# Altium footprint library Seeed-OPL-Relay.PCBLIB: 4 footprints
Each footprint in its own frame and in the unit in brackets; x right, y up, seen from the top. Pads: shape width x height; smd on the part's side, far side on the other; paste and mask are expansions set on the pad; w line width, h text height; cw(c..) or ccw(c..) is an arc to the next point about the centre after c.
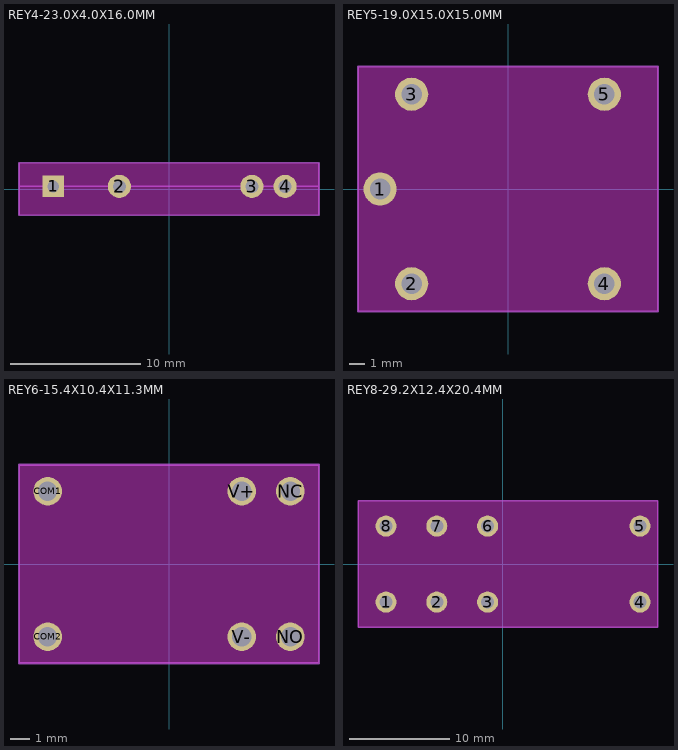
[diagram p0: the footprints below, top view; thin cyan lines are the x and y axes]

## REY4-23.0X4.0X16.0MM [mil]
pads (4):
  rect 65x65 hole 35.43: 1(-349.61,7.87)
  round 70 hole 40: 2(-149.61,7.87) 3(250.39,7.87) 4(350.39,7.87)
Keep-Out Layer:
  rectangle: -452.76,-78.74 452.76,78.74
Mechanical 2:
  lines w5: -452.76,-78.74 452.76,-78.74 452.76,78.74 -452.76,78.74 -452.76,-78.74
Mechanical 18:
  lines w5: -450,7.87 450,7.87

## REY5-19.0X15.0X15.0MM [mm]
pads (5):
  round 2.1 hole 1.3: 1(-8.1,0) 2(-6.1,-6) 3(-6.1,6) 4(6.1,-6) 5(6.1,6)
Keep-Out Layer:
  rectangle: -9.5,-7.75 9.5,7.75
Mechanical 2:
  lines w0.127: -9.5,-7.75 9.5,-7.75 9.5,7.75 -9.5,7.75 -9.5,-7.75

## REY6-15.4X10.4X11.3MM [mm]
pads (6):
  round 1.5 hole 1: COM1(-6.35,3.81) COM2(-6.35,-3.81) NC(6.35,3.81) NO(6.35,-3.81) V+(3.81,3.81) V-(3.81,-3.81)
Keep-Out Layer:
  rectangle: -7.85,-5.2 7.85,5.2
Mechanical 2:
  lines w0.127: -7.85,-5.2 -7.85,5.2 7.85,5.2 7.85,-5.2 -7.85,-5.2

## REY8-29.2X12.4X20.4MM [mil]
pads (8):
  round 82.68 hole 51.18: 1(-460,-150) 2(-260,-150) 3(-60,-150) 4(540,-150) 5(540,149.21) 6(-60,149.21) 7(-260,149.21) 8(-460,149.21)
Keep-Out Layer:
  rectangle: -570,-250 610,250
Mechanical 2:
  lines w5: -570.24,-250 610.87,-250 610.87,250 -570.24,250 -570.24,-250